# EAGLE library part CONNECTBOX_2019_CONNECTOR-6-FTDI (library ConnectBox_Charger)
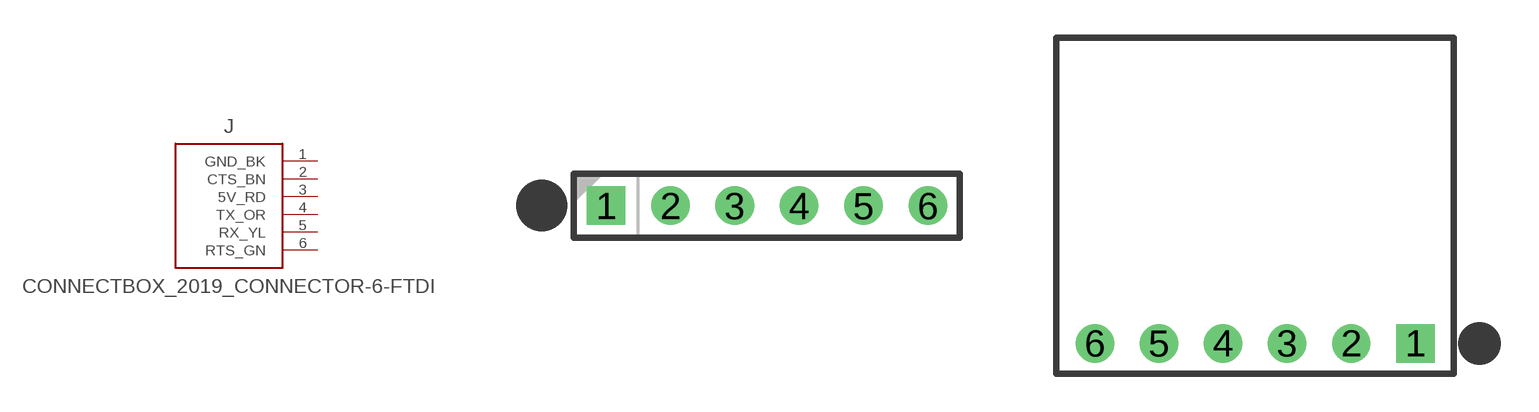
[diagram p1: symbol with the pads of CONNECTBOX_2019_ESQ-106-XX-X-S; footprints CONNECTBOX_2019_ESQ-106-XX-X-S, CONNECTBOX_2019_CONNECTOR_6_01.00_RA_BOTTOM]

Designator prefix J

## CONNECTBOX_2019_CONNECTOR-6-FTDI  [CONNECTBOX_2019_ESQ-106-XX-X-S]
1  GND_BK
2  CTS_BN
3  5V_RD
4  TX_OR
5  RX_YL
6  RTS_GN

## CONNECTBOX_2019_CONNECTOR-6-FTDI-BOTTOM  [CONNECTBOX_2019_CONNECTOR_6_01.00_RA_BOTTOM]
Pads as for CONNECTBOX_2019_ESQ-106-XX-X-S

## Footprint CONNECTBOX_2019_ESQ-106-XX-X-S (pad centres in mm)
drill 1.016 pad 1.524 square: 1 0,0
drill 1.016 pad 1.524: 2 2.54,0; 3 5.08,0; 4 7.62,0; 5 10.16,0; 6 12.7,0

## Footprint CONNECTBOX_2019_CONNECTOR_6_01.00_RA_BOTTOM (pad centres in mm)
drill 1.016 pad 1.524 square: 1 0,0
drill 1.016 pad 1.524: 2 -2.54,0; 3 -5.08,0; 4 -7.62,0; 5 -10.16,0; 6 -12.7,0